# Altium footprint library Res_Yageo_RT1206BRD0710KL_eec_IPC_C.PcbLib: 1 footprints
Each footprint in its own frame and in the unit in brackets; x right, y up, seen from the top. Pads: shape width x height; smd on the part's side, far side on the other; paste and mask are expansions set on the pad; w line width, h text height; cw(c..) or ccw(c..) is an arc to the next point about the centre after c.
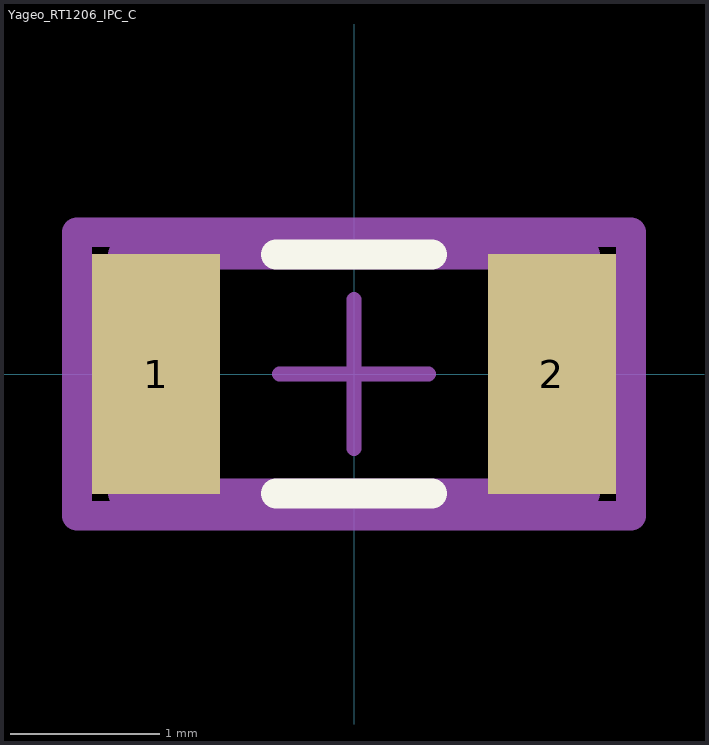
[diagram p0: the footprint, top view; thin cyan lines are the x and y axes]

## Yageo_RT1206_IPC_C [mm]
pads (2):
  rect 0.858x1.612 smd paste+0 mask+0: 1(-1.327,0) 2(1.327,0)
Top Overlay:
  lines w0.2: -0.523,-0.8 0.523,-0.8 ; -0.523,0.8 0.523,0.8
Mechanical 10:
  lines w0.2: -1.856,-0.95 1.856,-0.95 1.856,0.95 -1.856,0.95 -1.856,-0.95
  text ".Designator" at 0,0 h1
Mechanical 12:
  lines w0.2: -1.55,-0.8 1.55,-0.8 1.55,0.8 -1.55,0.8 -1.55,-0.8
Mechanical 15:
  lines w0.1: -0.5,0 0.5,0 ; 0,-0.5 0,0.5
  lines w0.2: -1.856,-0.95 1.856,-0.95 1.856,0.95 -1.856,0.95 -1.856,-0.95
3D body "Res_Yageo_RT1206BRD0710KL_eec.STEP": height 0.25, standoff 0, extent -1.856,-0.95 1.856,0.95